# EAGLE library part 1296-T10 (library toyotune)
1.27mm SINGLE ROW FEMALE SOCKET Source: http://www.leotronics.co.uk/Conexcon/Data%20Sheets/sec.%20A/1296ing.pdf
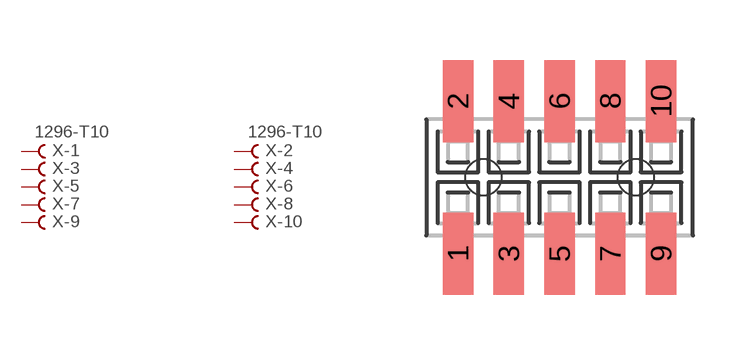
[diagram p62: symbol with the pads of 1296-10; footprint 1296-10]

Designator prefix X; gates -1=FVAL -2=FVAL -3=F -4=F -5=F -6=F -7=F -8=F -9=F -10=F

## 1296-T10 (OC_FARNELL: unknown; OC_NEWARK: unknown)  [1296-10]
1  -1:B  pas
2  -2:B  pas
3  -3:B  pas
4  -4:B  pas
5  -5:B  pas
6  -6:B  pas
7  -7:B  pas
8  -8:B  pas
9  -9:B  pas
10  -10:B  pas

## Footprint 1296-10 (pad centres in mm)
1.27mm SINGLE ROW FEMALE SOCKET Source: http://www.leotronics.co.uk/Conexcon/Data%20Sheets/sec.%20A/1296ing.pdf
smd 0.76 x 2.05: 1 -2.54,-1.907; 2 -2.54,1.907; 3 -1.27,-1.907; 4 -1.27,1.907; 5 0,-1.907; 6 0,1.907; 7 1.27,-1.907; 8 1.27,1.907; 9 2.54,-1.907; 10 2.54,1.907
hole 0.9 at -1.905,0
hole 0.9 at 1.905,0